# Altium schematic symbol library SCH - MCU - STM32 - ST MICROELECTRONICS STM32U535JEYXQ WLCSP72.SchLib: 1 symbol
Pins are listed as number, name and electrical type; pins without a type are passive.

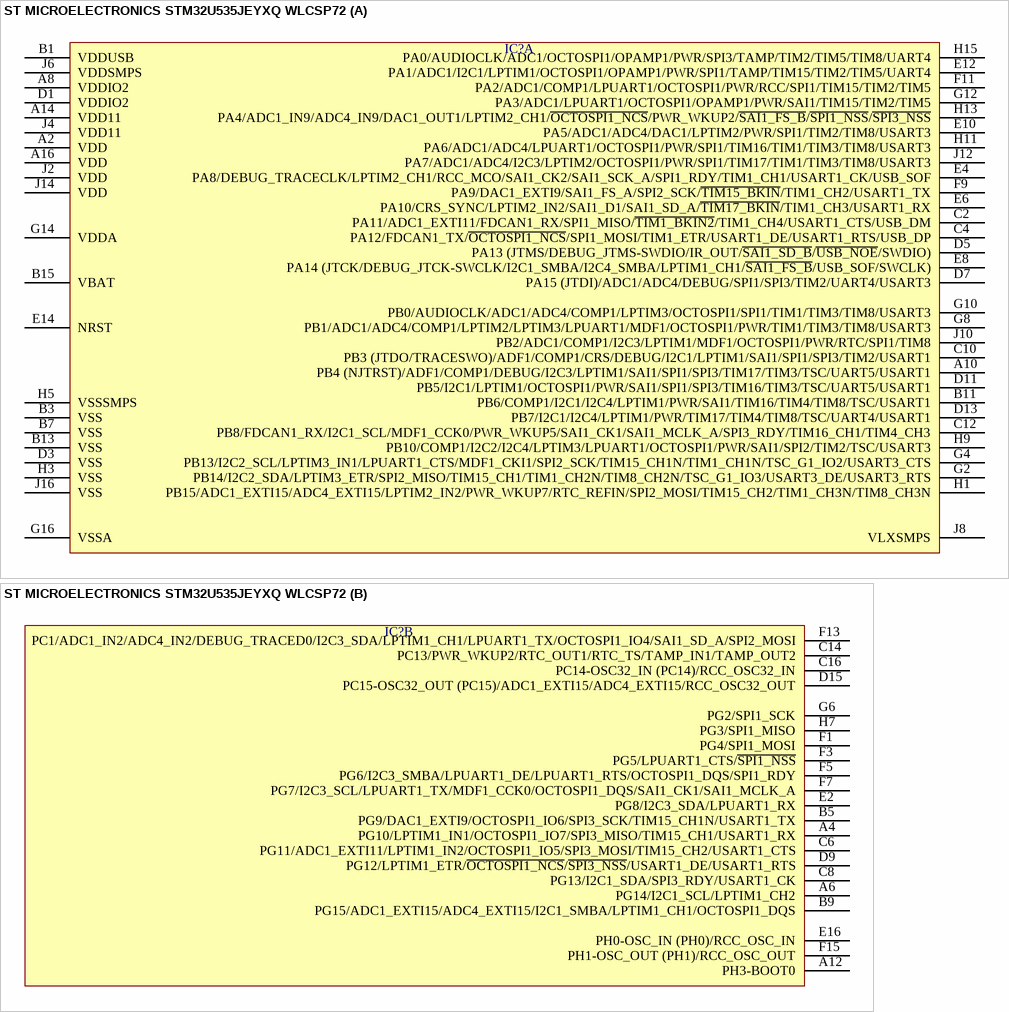
[diagram p0: symbol ST MICROELECTRONICS STM32U535JEYXQ WLCSP72]

## ST MICROELECTRONICS STM32U535JEYXQ WLCSP72
designator IC?  (value not drawn)
part A pins: A2 VDD, A8 VDDIO2, A10 PB4 (NJTRST)/ADF1/COMP1/DEBUG/I2C3/LPTIM1/SAI1/SPI1/SPI3/TIM17/TIM3/TSC/UART5/USART1, A14 VDD11, A16 VDD, B1 VDDUSB, B3 VSS, B7 VSS, B11 PB6/COMP1/I2C1/I2C4/LPTIM1/PWR/SAI1/TIM16/TIM4/TIM8/TSC/USART1, B13 VSS, B15 VBAT, C2 PA11/ADC1_EXTI11/FDCAN1_RX/SPI1_MISO/~{TIM1_BKIN2}/TIM1_CH4/USART1_CTS/USB_DM, C4 PA12/FDCAN1_TX/~{OCTOSPI1_NCS}/SPI1_MOSI/TIM1_ETR/USART1_DE/USART1_RTS/USB_DP, C10 PB3 (JTDO/TRACESWO)/ADF1/COMP1/CRS/DEBUG/I2C1/LPTIM1/SAI1/SPI1/SPI3/TIM2/USART1, C12 PB8/FDCAN1_RX/I2C1_SCL/MDF1_CCK0/PWR_WKUP5/SAI1_CK1/SAI1_MCLK_A/SPI3_RDY/TIM16_CH1/TIM4_CH3, D1 VDDIO2, D3 VSS, D5 PA13 (JTMS/DEBUG_JTMS-SWDIO/IR_OUT/~{SAI1_SD_B}/~{USB_NOE}/SWDIO), D7 PA15 (JTDI)/ADC1/ADC4/DEBUG/SPI1/SPI3/TIM2/UART4/USART3, D11 PB5/I2C1/LPTIM1/OCTOSPI1/PWR/SAI1/SPI1/SPI3/TIM16/TIM3/TSC/UART5/USART1, D13 PB7/I2C1/I2C4/LPTIM1/PWR/TIM17/TIM4/TIM8/TSC/UART4/USART1, E4 PA8/DEBUG_TRACECLK/LPTIM2_CH1/RCC_MCO/SAI1_CK2/SAI1_SCK_A/SPI1_RDY/TIM1_CH1/USART1_CK/USB_SOF, E6 PA10/CRS_SYNC/LPTIM2_IN2/SAI1_D1/SAI1_SD_A/~{TIM17_BKIN}/TIM1_CH3/USART1_RX, E8 PA14 (JTCK/DEBUG_JTCK-SWCLK/I2C1_SMBA/I2C4_SMBA/LPTIM1_CH1/~{SAI1_FS_B}/USB_SOF/SWCLK), E10 PA5/ADC1/ADC4/DAC1/LPTIM2/PWR/SPI1/TIM2/TIM8/USART3, E12 PA1/ADC1/I2C1/LPTIM1/OCTOSPI1/OPAMP1/PWR/SPI1/TAMP/TIM15/TIM2/TIM5/UART4, E14 NRST, F9 PA9/DAC1_EXTI9/SAI1_FS_A/SPI2_SCK/~{TIM15_BKIN}/TIM1_CH2/USART1_TX, F11 PA2/ADC1/COMP1/LPUART1/OCTOSPI1/PWR/RCC/SPI1/TIM15/TIM2/TIM5, G2 PB14/I2C2_SDA/LPTIM3_ETR/SPI2_MISO/TIM15_CH1/TIM1_CH2N/TIM8_CH2N/TSC_G1_IO3/USART3_DE/USART3_RTS, G4 PB13/I2C2_SCL/LPTIM3_IN1/LPUART1_CTS/MDF1_CKI1/SPI2_SCK/TIM15_CH1N/TIM1_CH1N/TSC_G1_IO2/USART3_CTS, G8 PB1/ADC1/ADC4/COMP1/LPTIM2/LPTIM3/LPUART1/MDF1/OCTOSPI1/PWR/TIM1/TIM3/TIM8/USART3, G10 PB0/AUDIOCLK/ADC1/ADC4/COMP1/LPTIM3/OCTOSPI1/SPI1/TIM1/TIM3/TIM8/USART3, G12 PA3/ADC1/LPUART1/OCTOSPI1/OPAMP1/PWR/SAI1/TIM15/TIM2/TIM5, G14 VDDA, G16 VSSA, H1 PB15/ADC1_EXTI15/ADC4_EXTI15/LPTIM2_IN2/PWR_WKUP7/RTC_REFIN/SPI2_MOSI/TIM15_CH2/TIM1_CH3N/TIM8_CH3N, H3 VSS, H5 VSSSMPS, H9 PB10/COMP1/I2C2/I2C4/LPTIM3/LPUART1/OCTOSPI1/PWR/SAI1/SPI2/TIM2/TSC/USART3, H11 PA6/ADC1/ADC4/LPUART1/OCTOSPI1/PWR/SPI1/TIM16/TIM1/TIM3/TIM8/USART3, H13 PA4/ADC1_IN9/ADC4_IN9/DAC1_OUT1/LPTIM2_CH1/~{OCTOSPI1_NCS}/PWR_WKUP2/~{SAI1_FS_B}/~{SPI1_NSS}/~{SPI3_NSS}, H15 PA0/AUDIOCLK/ADC1/OCTOSPI1/OPAMP1/PWR/SPI3/TAMP/TIM2/TIM5/TIM8/UART4, J2 VDD, J4 VDD11, J6 VDDSMPS, J8 VLXSMPS, J10 PB2/ADC1/COMP1/I2C3/LPTIM1/MDF1/OCTOSPI1/PWR/RTC/SPI1/TIM8, J12 PA7/ADC1/ADC4/I2C3/LPTIM2/OCTOSPI1/PWR/SPI1/TIM17/TIM1/TIM3/TIM8/USART3, J14 VDD, J16 VSS
part B pins: A4 PG10/LPTIM1_IN1/OCTOSPI1_IO7/SPI3_MISO/TIM15_CH1/USART1_RX, A6 PG14/I2C1_SCL/LPTIM1_CH2, A12 PH3-BOOT0, B5 PG9/DAC1_EXTI9/OCTOSPI1_IO6/SPI3_SCK/TIM15_CH1N/USART1_TX, B9 PG15/ADC1_EXTI15/ADC4_EXTI15/I2C1_SMBA/LPTIM1_CH1/OCTOSPI1_DQS, C6 PG11/ADC1_EXTI11/LPTIM1_IN2/OCTOSPI1_IO5/SPI3_MOSI/TIM15_CH2/USART1_CTS, C8 PG13/I2C1_SDA/SPI3_RDY/USART1_CK, C14 PC13/PWR_WKUP2/RTC_OUT1/RTC_TS/TAMP_IN1/TAMP_OUT2, C16 PC14-OSC32_IN (PC14)/RCC_OSC32_IN, D9 PG12/LPTIM1_ETR/~{OCTOSPI1_NCS}/~{SPI3_NSS}/USART1_DE/USART1_RTS, D15 PC15-OSC32_OUT (PC15)/ADC1_EXTI15/ADC4_EXTI15/RCC_OSC32_OUT, E2 PG8/I2C3_SDA/LPUART1_RX, E16 PH0-OSC_IN (PH0)/RCC_OSC_IN, F1 PG4/SPI1_MOSI, F3 PG5/LPUART1_CTS/~{SPI1_NSS}, F5 PG6/I2C3_SMBA/LPUART1_DE/LPUART1_RTS/OCTOSPI1_DQS/SPI1_RDY, F7 PG7/I2C3_SCL/LPUART1_TX/MDF1_CCK0/OCTOSPI1_DQS/SAI1_CK1/SAI1_MCLK_A, F13 PC1/ADC1_IN2/ADC4_IN2/DEBUG_TRACED0/I2C3_SDA/LPTIM1_CH1/LPUART1_TX/OCTOSPI1_IO4/SAI1_SD_A/SPI2_MOSI, F15 PH1-OSC_OUT (PH1)/RCC_OSC_OUT, G6 PG2/SPI1_SCK, H7 PG3/SPI1_MISO